# EAGLE library part PCA9548 (library Bits_library_eagle)
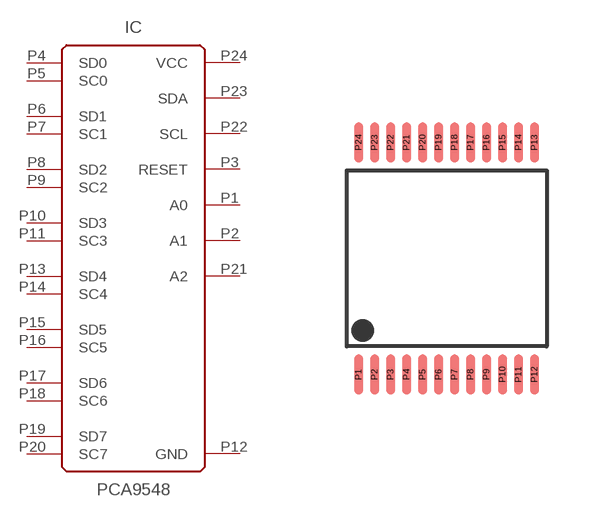
[diagram p74: symbol with the pads of TVSOP-24; footprint TVSOP-24]

Designator prefix IC

## PCA9548  [TVSOP-24]
P1  A0
P2  A1
P3  RESET
P4  SD0
P5  SC0
P6  SD1
P7  SC1
P8  SD2
P9  SC2
P10  SD3
P11  SC3
P12  GND  pwr
P13  SD4
P14  SC4
P15  SD5
P16  SC5
P17  SD6
P18  SC6
P19  SD7
P20  SC7
P21  A2
P22  SCL
P23  SDA
P24  VCC  pwr

## Footprint TVSOP-24 (pad centres in mm)
smd 0.23 x 1: P1 -2.2,-2.9; P2 -1.8,-2.9; P3 -1.4,-2.9; P4 -1,-2.9; P5 -0.6,-2.9; P6 -0.2,-2.9; P7 0.2,-2.9; P8 0.6,-2.9; P9 1,-2.9; P10 1.4,-2.9; P11 1.8,-2.9; P12 2.2,-2.9; P13 2.2,2.9; P14 1.8,2.9; P15 1.4,2.9; P16 1,2.9; P17 0.6,2.9; P18 0.2,2.9; P19 -0.2,2.9; P20 -0.6,2.9; P21 -1,2.9; P22 -1.4,2.9; P23 -1.8,2.9; P24 -2.2,2.9